# EAGLE library part M10 (library Connectors)
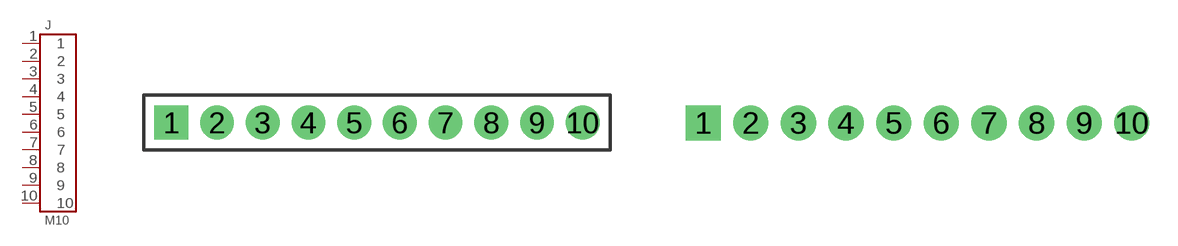
[diagram p22: symbol with the pads of M10X1; footprints M10X1, M10X1-NOSILK]

Designator prefix J

## M10  [M10X1]
1  1
2  2
3  3
4  4
5  5
6  6
7  7
8  8
9  9
10  10

## M10-NOSILK  [M10X1-NOSILK]
Pads as for M10X1

## M10-SMD  [M10X1-SMD]
Pads as for M10X1

## Footprint M10X1 (pad centres in mm)
drill 1.016 pad 1.88 square: 1 -11.43,0
drill 1.016 pad 1.88: 2 -8.89,0; 3 -6.35,0; 4 -3.81,0; 5 -1.27,0; 6 1.27,0; 7 3.81,0; 8 6.35,0; 9 8.89,0; 10 11.43,0

## Footprint M10X1-NOSILK (pad centres in mm)
drill 1.016 pad 1.88 square: 1 -11.43,0
drill 1.016 pad 1.88: 2 -8.89,0; 3 -6.35,0; 4 -3.81,0; 5 -1.27,0; 6 1.27,0; 7 3.81,0; 8 6.35,0; 9 8.89,0; 10 11.43,0

## Footprint M10X1-SMD (pad centres in mm)
smd 1.3 x 2.8: 1 -11.43,0; 2 -8.89,0; 3 -6.35,0; 4 -3.81,0; 5 -1.27,0; 6 1.27,0; 7 3.81,0; 8 6.35,0; 9 8.89,0; 10 11.43,0